# EAGLE library part LT3042 (library LT3042)
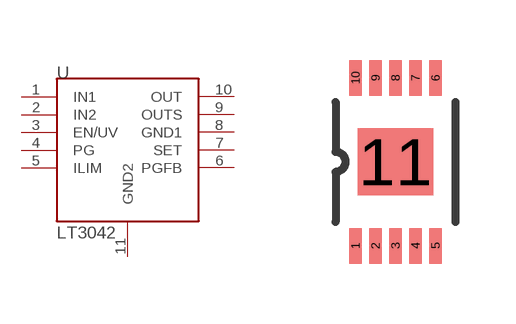
[diagram p0: symbol with the pads of LT3042; footprint LT3042]

Designator prefix U

## LT3042  [LT3042]
1  IN1  in
2  IN2  in
3  EN/UV  in
4  PG  in
5  ILIM  in
6  PGFB
7  SET  in
8  GND1  pwr
9  OUTS  in
10  OUT  sup
11  GND2  pwr

## Footprint LT3042 (pad centres in mm)
smd 0.305 x 0.889: 1 -1,-2.1; 2 -0.5,-2.1; 3 0,-2.1; 4 0.5,-2.1; 5 1,-2.1; 6 1,2.1; 7 0.5,2.1; 8 0,2.1; 9 -0.5,2.1; 10 -1,2.1
smd 1.88 x 1.68: 11 0,0